# Altium footprint library PCB - CONNECTOR - TE-CONBNC1.PCBLIB: 1 footprints
Each footprint in its own frame and in the unit in brackets; x right, y up, seen from the top. Pads: shape width x height; smd on the part's side, far side on the other; paste and mask are expansions set on the pad; w line width, h text height; cw(c..) or ccw(c..) is an arc to the next point about the centre after c.
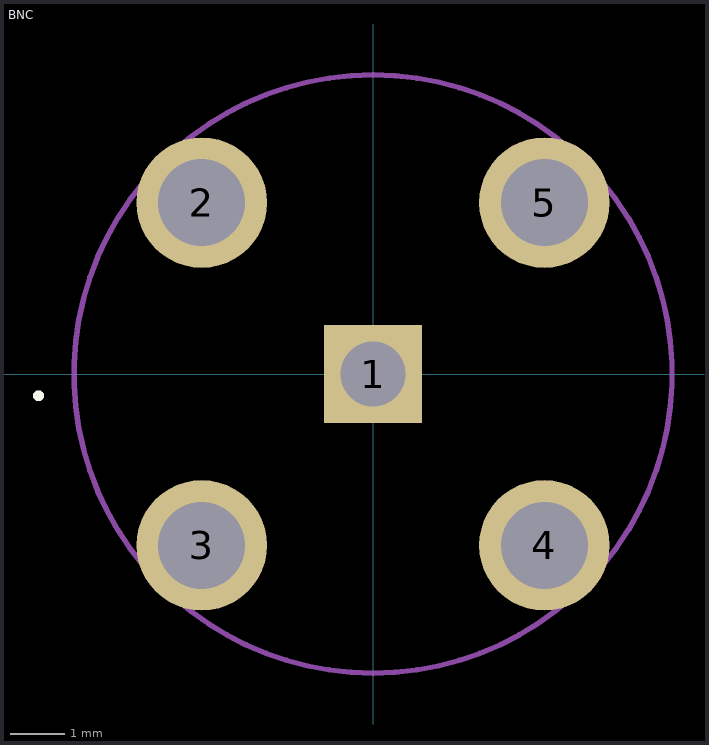
[diagram p0: the footprint, top view; thin cyan lines are the x and y axes]

## BNC [mm]
pads (5):
  rect 1.8x1.8 hole 1.2: 1(0,0)
  round 2.4 hole 1.6: 2(-3.15,3.15) 3(-3.15,-3.15) 4(3.15,-3.15) 5(3.15,3.15)
Top Overlay:
  lines w0.1: -6.2,-0.4 cw(c-6.15,-0.4) -6.1,-0.4 cw(c-6.15,-0.4) -6.2,-0.4
Top Value (Mech13):
  lines w0.1: 0,-5.5 ccw(c0,0) 0,5.5 ccw(c0,0) 0,-5.5
3D body "CONBNC001.stp": height 13.89, standoff -4.51, extent -5.5,-5.5 5.5,5.5